# EAGLE library part 316-923 (library SWITCH1)
TOGGLE SWITCH Mors, distributor RS Components
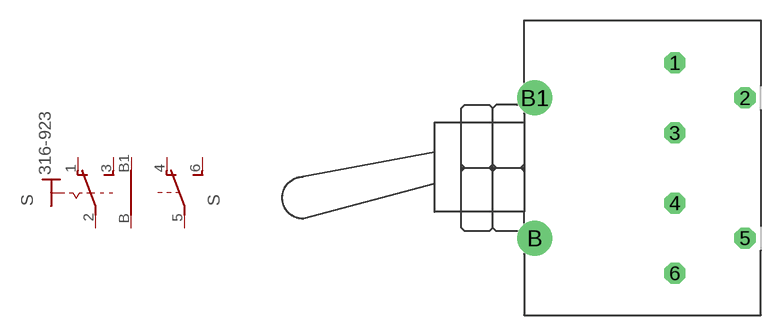
[diagram p1: symbol with the pads of 316-923; footprint 316-923]

Designator prefix S; gates B=U2 2=KS-UB-

## 316-923  [316-923]
1  2:O  pas
2  2:P  pas
3  2:S  pas
4  B:O  pas
5  B:P  pas
6  B:S  pas
B  2:B  pas
B1  2:B1  pas

## Footprint 316-923 (pad centres in mm)
TOGGLE SWITCH Mors, distributor RS Components
drill 1.016 octagon: 1 10.16,7.62; 2 15.24,5.08; 3 10.16,2.54; 4 10.16,-2.54; 5 15.24,-5.08; 6 10.16,-7.62
drill 1.016 pad 2.54 round: B 0,-5.08; B1 0,5.08